# Altium integrated library TI Data Converters Digital to Analog Converter.IntLib: 1533 symbols (part 33 of 99)
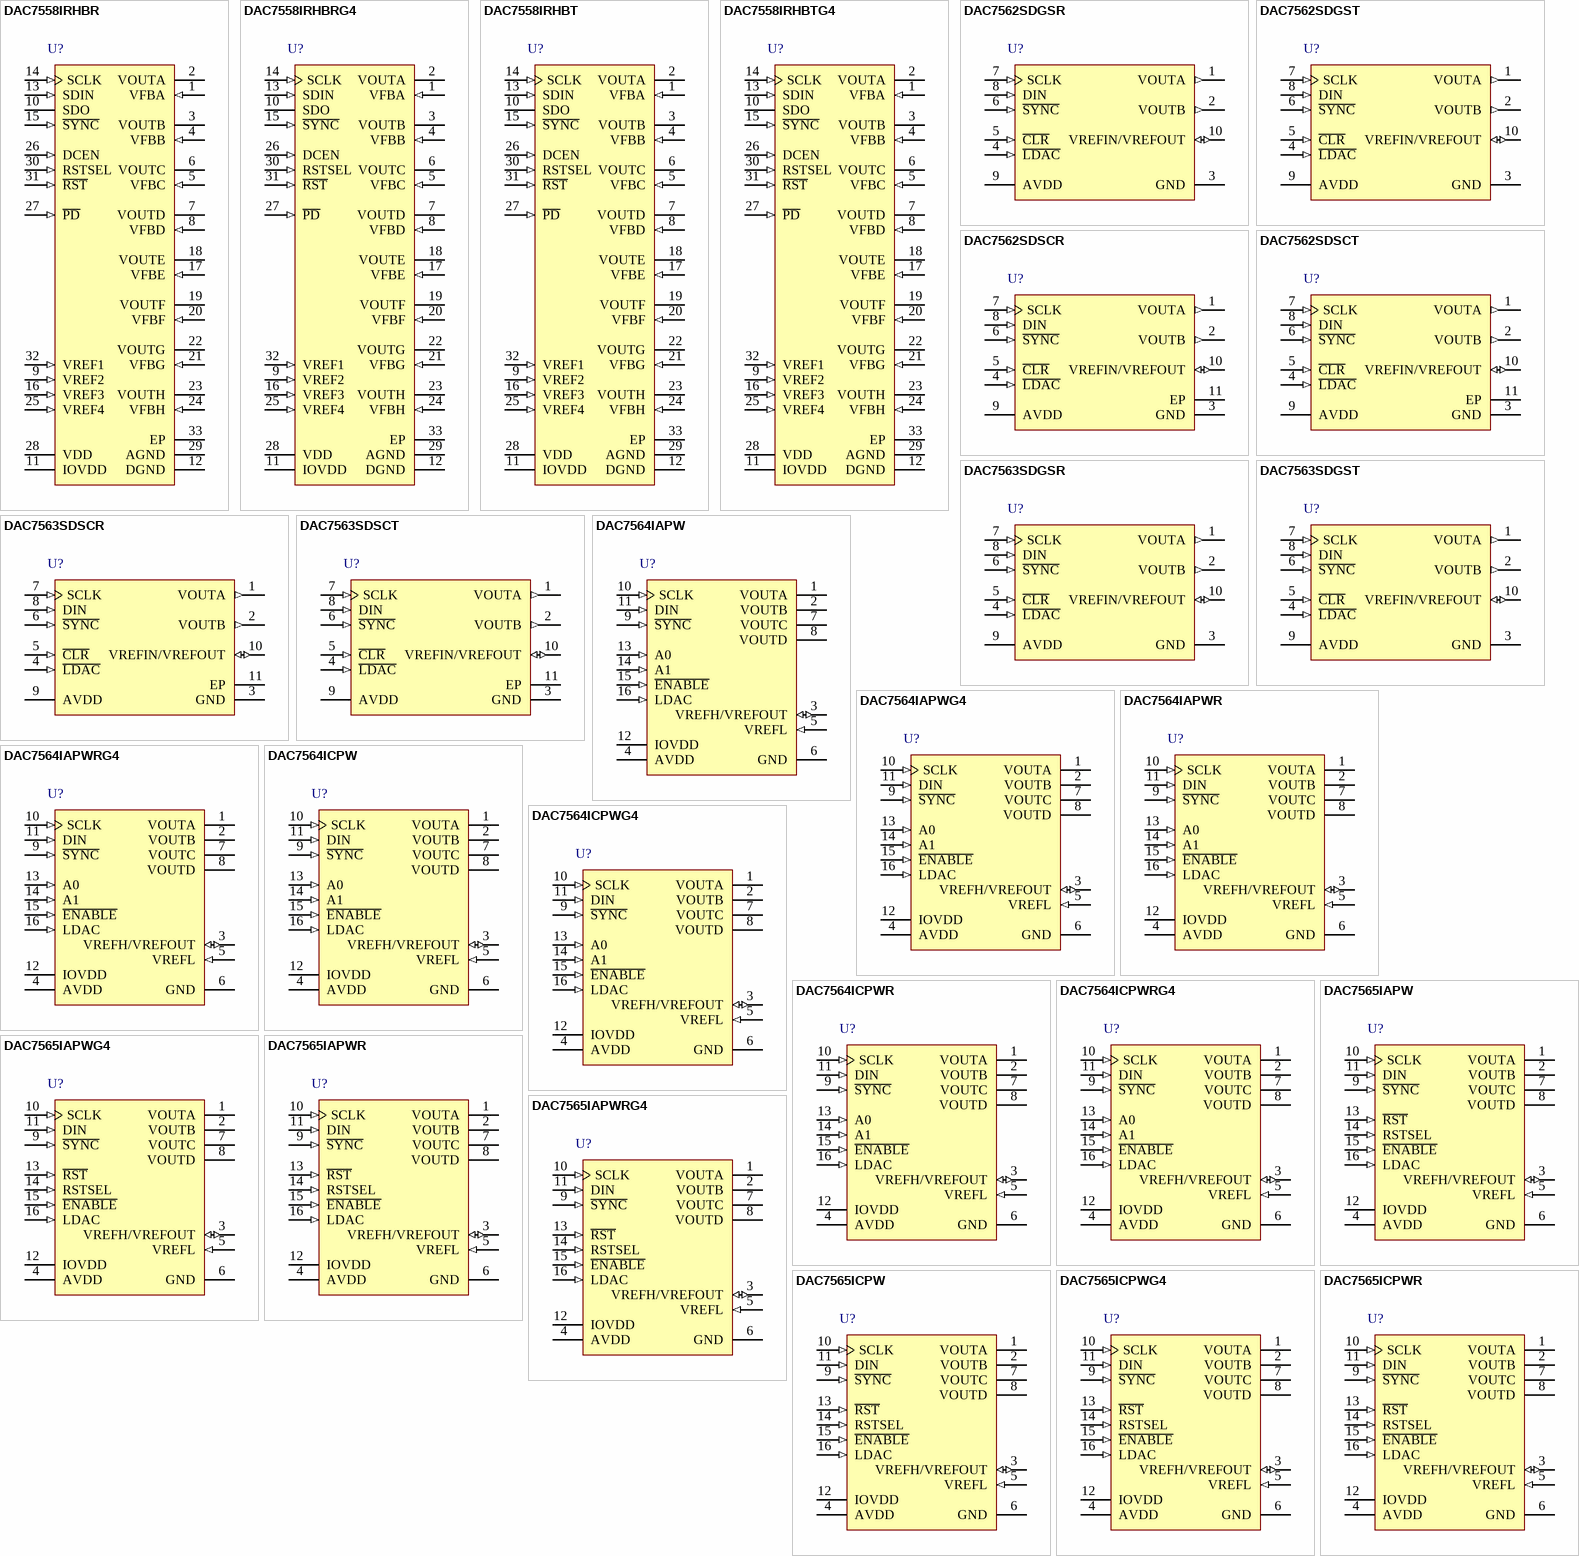
[diagram p105: symbols DAC7558IRHBR to DAC7565ICPWR]

## DAC7558IRHBTG4
designator U?
12-Bit, Octal, Ultralow Glitch, Voltage Output DAC, -40 to 105 degC, 32-pin QFN (RHB32), Green (RoHS & no Sb/Br); Manufacturer: Texas Instruments; PartNumber: DAC7558IRHBTG4; DAC Channels: 8; DNL(Max)(+/-LSB): 0.5; INL(Max)(+/-LSB): 1; Interface: Serial SPI; Power Consumption(Typ)(mW): 4.5; Resolution(Bits): 12; Settling Time(us): 5; SubFamily: Precision DAC (=<10MSPS); DatasheetVersion: SLAS435A; PackageVersion: 4204326/D, 06/2011; PackageReference: RHB32-3450X3450TP; PackageDescription: 32-Pin Plastic Flat Pack, Body 5 x 5 mm, Pitch 0.5 mm; Supplier 1: Digi-Key; Supplier Part Number 1: DAC7558IRHBTG4-ND; Supplier 2: Newark; Supplier Part Number 2: 70K1031; Supplier 3: Mouser; Supplier Part Number 3: 595-DAC7558IRHBTG4; Eco-Plan: Green (RoHS & no Sb/Br); Mounting Technology: Surface Mount; Code_JEDEC: MO-220; ComponentLink1Description: Manufacturer URL; ComponentLink1URL: http://www.ti.com/; ComponentLink2Description: Datasheet; ComponentLink2URL: http://www.ti.com/general/docs/lit/getliterature.tsp?genericPartNumber=DAC7558&fileType=pdf; ComponentLink3Description: Package Specification; ComponentLink3URL: http://www.ti.com/lit/ml/mpqf130c/mpqf130c.pdf
footprint TI-RHB32-3450X3450TP_V (QFN, 32-Leads, Body 5x5mm, Pitch 0.5mm, Thermal Pad 3.45x3.45mm)
pins: 1 VFBA (in) "DAC A amplifier sense input", 2 VOUTA (hiz) "Analog output voltage from DAC A", 3 VOUTB (hiz) "Analog output voltage from DAC B", 4 VFBB (in) "DAC B amplifier sense input", 5 VFBC (in) "DAC C amplifier sense input", 6 VOUTC (hiz) "Analog output voltage from DAC C", 7 VOUTD (hiz) "Analog output voltage from DAC D", 8 VFBD (in) "DAC D amplifier sense input", 9 VREF2 (in) "Positive reference voltage input for DAC C and DAC D", 10 SDO (hiz) "Serial data output", 11 IOVDD (power) "I/O voltage supply input", 12 DGND (power) "Digital ground", 13 SDIN (in) "Serial data input", 14 SCLK (in) "Serial clock input", 15 ~{SYNC} (in) "Frame synchronization input. The falling edge of the SYNC pulse indicates the start of a serial data frame shifted out to the DAC7558.", 16 VREF3 (in) "Positive reference voltage input for DAC E and DAC F", 17 VFBE (in) "DAC E amplifier sense input", 18 VOUTE (hiz) "Analog output voltage from DAC E", 19 VOUTF (hiz) "Analog output voltage from DAC F", 20 VFBF (in) "DAC F amplifier sense input", 21 VFBG (in) "DAC G amplifier sense input", 22 VOUTG (hiz) "Analog output voltage from DAC G", 23 VOUTH (hiz) "Analog output voltage from DAC H", 24 VFBH (in) "DAC H amplifier sense input", 25 VREF4 (in) "Positive reference voltage input for DAC G and DAC H", 26 DCEN (in) "Daisy-chain enable", 27 ~{PD} (in) "Power down", 28 VDD (power) "Analog voltage supply input", 29 AGND (power) "Analog ground", 30 RSTSEL (in) "Reset select. If this pin is low, input coding is binary; if high, then 2s compliment.", 31 ~{RST} (in) "Asynchronous reset. Active low. If R\S\T\ pin is low, all DAC channels reset either to zero scale (RSTSEL = 0) or to midscale (RSTSEL = 1).", 32 VREF1 (in) "Positive reference voltage input for DAC A and DAC B", 33 EP (power) "Thermal pad should be connected to AGND."

## DAC7562SDGSR
designator U?
12-Bit, Dual, Low Power, Ultra-Low Glitch, Buffered Voltage Output DAC with 2.5 V, 4 ppm/degC Reference, -40 to 125 degC, 10-pin SOP (DGS10), Green (RoHS & no Sb/Br); Manufacturer: Texas Instruments; PartNumber: DAC7562SDGSR; DAC Channels: 2; DNL(Max)(+/-LSB): 0.25; INL(Max)(+/-LSB): 0.75; Interface: Serial SPI; Power Consumption(Typ)(mW): 0.54; Resolution(Bits): 12; Settling Time(us): 7; SubFamily: Precision DAC (=<10MSPS); DatasheetVersion: SLAS719D; PackageVersion: 4073272/C, 02/2004; PackageReference: DGS10; PackageDescription: 10-Pin Plastic Small Outline, Body 3 x 3 mm, Pitch 0.5 mm; Supplier 1: Digi-Key; Supplier Part Number 1: 296-29022-2-ND; Supplier 2: Digi-Key; Supplier Part Number 2: 296-29022-1-ND; Supplier 3: Digi-Key; Supplier Part Number 3: 296-29022-6-ND; Supplier 4: Mouser; Supplier Part Number 4: 595-DAC7562SDGSR; Eco-Plan: Green (RoHS & no Sb/Br); Mounting Technology: Surface Mount; Code_JEDEC: MO-153; ComponentLink1Description: Manufacturer URL; ComponentLink1URL: http://www.ti.com/; ComponentLink2Description: Datasheet; ComponentLink2URL: http://www.ti.com/general/docs/lit/getliterature.tsp?genericPartNumber=DAC7562&fileType=pdf; ComponentLink3Description: Package Specification; ComponentLink3URL: http://www.ti.com/lit/ml/mpds035b/mpds035b.pdf
footprint TI-DGS10_N (SOP, 10-Leads, Body 3x3mm, Pitch 0.5mm, IPC Medium Density)
footprint TI-DGS10_L (SOP, 10-Leads, Body 3x3mm, Pitch 0.5mm, IPC High Density)
footprint TI-DGS10_M (SOP, 10-Leads, Body 3x3mm, Pitch 0.5mm, IPC Low Density)
pins: 1 VOUTA (out) "Analog output voltage from DAC-A", 2 VOUTB (out) "Analog output voltage from DAC-B", 3 GND (power) "Ground reference point for all circuitry on the device", 4 ~{LDAC} (in) "In synchronous mode, data are updated with the falling edge of the 24th SCLK cycle, which follows a falling edge of S\Y\N\C\. For such synchronous updates, the L\D\A\C\ pin is not required, and it must be connected to GND (See Datasheet)", 5 ~{CLR} (in) "Asynchronous clear input. The C\L\R\ input is falling-edge sensitive. When C\L\R\ is activated, zero scale (DACxx62) or mid-scale (DACxx63) is loaded to all input and DAC registers. This sets the DAC output voltages (See Datasheet)", 6 ~{SYNC} (in) "Level-triggered control input (active-low). This input is the frame synchronization signal for the input data. When S\Y\N\C\ goes low, it enables the input shift register, and data are sampled on subsequent falling clock (See Datasheet)", 7 SCLK (in) "Serial clock input. Data can be transferred at rates up to 50 MHz. Schmitt-trigger logic input", 8 DIN (in) "Serial data input. Data are clocked into the 24-bit input shift register on each falling edge of the serial clock input. Schmitt-trigger logic input", 9 AVDD (power) "Power-supply input, 2.7 V to 5.5 V", 10 VREFIN/VREFOUT (io) "Bidirectional voltage reference pin. If internal reference is used, 2.5-V output."

## DAC7562SDGST
designator U?
12-Bit, Dual, Low Power, Ultra-Low Glitch, Buffered Voltage Output DAC with 2.5 V, 4 ppm/degC Reference, -40 to 125 degC, 10-pin SOP (DGS10), Green (RoHS & no Sb/Br); Manufacturer: Texas Instruments; PartNumber: DAC7562SDGST; DAC Channels: 2; DNL(Max)(+/-LSB): 0.25; INL(Max)(+/-LSB): 0.75; Interface: Serial SPI; Power Consumption(Typ)(mW): 0.54; Resolution(Bits): 12; Settling Time(us): 7; SubFamily: Precision DAC (=<10MSPS); DatasheetVersion: SLAS719D; PackageVersion: 4073272/C, 02/2004; PackageReference: DGS10; PackageDescription: 10-Pin Plastic Small Outline, Body 3 x 3 mm, Pitch 0.5 mm; Supplier 1: Digi-Key; Supplier Part Number 1: DAC7562SDGST-ND; Supplier 2: Newark; Supplier Part Number 2: 51T4330; Supplier 3: Mouser; Supplier Part Number 3: 595-DAC7562SDGST; Eco-Plan: Green (RoHS & no Sb/Br); Mounting Technology: Surface Mount; Code_JEDEC: MO-153; ComponentLink1Description: Manufacturer URL; ComponentLink1URL: http://www.ti.com/; ComponentLink2Description: Datasheet; ComponentLink2URL: http://www.ti.com/general/docs/lit/getliterature.tsp?genericPartNumber=DAC7562&fileType=pdf; ComponentLink3Description: Package Specification; ComponentLink3URL: http://www.ti.com/lit/ml/mpds035b/mpds035b.pdf
footprint TI-DGS10_N (SOP, 10-Leads, Body 3x3mm, Pitch 0.5mm, IPC Medium Density)
footprint TI-DGS10_L (SOP, 10-Leads, Body 3x3mm, Pitch 0.5mm, IPC High Density)
footprint TI-DGS10_M (SOP, 10-Leads, Body 3x3mm, Pitch 0.5mm, IPC Low Density)
pins: 1 VOUTA (out) "Analog output voltage from DAC-A", 2 VOUTB (out) "Analog output voltage from DAC-B", 3 GND (power) "Ground reference point for all circuitry on the device", 4 ~{LDAC} (in) "In synchronous mode, data are updated with the falling edge of the 24th SCLK cycle, which follows a falling edge of S\Y\N\C\. For such synchronous updates, the L\D\A\C\ pin is not required, and it must be connected to GND (See Datasheet)", 5 ~{CLR} (in) "Asynchronous clear input. The C\L\R\ input is falling-edge sensitive. When C\L\R\ is activated, zero scale (DACxx62) or mid-scale (DACxx63) is loaded to all input and DAC registers. This sets the DAC output voltages (See Datasheet)", 6 ~{SYNC} (in) "Level-triggered control input (active-low). This input is the frame synchronization signal for the input data. When S\Y\N\C\ goes low, it enables the input shift register, and data are sampled on subsequent falling clock (See Datasheet)", 7 SCLK (in) "Serial clock input. Data can be transferred at rates up to 50 MHz. Schmitt-trigger logic input", 8 DIN (in) "Serial data input. Data are clocked into the 24-bit input shift register on each falling edge of the serial clock input. Schmitt-trigger logic input", 9 AVDD (power) "Power-supply input, 2.7 V to 5.5 V", 10 VREFIN/VREFOUT (io) "Bidirectional voltage reference pin. If internal reference is used, 2.5-V output."

## DAC7562SDSCR
designator U?
12-Bit, Dual, Low Power, Ultra-Low Glitch, Buffered Voltage Output DAC with 2.5 V, 4 ppm/degC Reference, -40 to 125 degC, 10-pin SON (DSC10), Green (RoHS & no Sb/Br); Manufacturer: Texas Instruments; PartNumber: DAC7562SDSCR; DAC Channels: 2; DNL(Max)(+/-LSB): 0.25; INL(Max)(+/-LSB): 0.75; Interface: Serial SPI; Power Consumption(Typ)(mW): 0.54; Resolution(Bits): 12; Settling Time(us): 7; SubFamily: Precision DAC (=<10MSPS); DatasheetVersion: SLAS719D; PackageVersion: 4207383/E, 01/2011; PackageReference: DSC10-2550X1050TP; PackageDescription: 10-Pin Plastic Small Outline No-Lead, Body 3 x 3 mm, Pitch 0.5 mm; Supplier 1: Digi-Key; Supplier Part Number 1: 296-29023-2-ND; Supplier 2: Digi-Key; Supplier Part Number 2: 296-29023-1-ND; Supplier 3: Digi-Key; Supplier Part Number 3: 296-29023-6-ND; Supplier 4: Newark; Supplier Part Number 4: 52T7715; Supplier 5: Mouser; Supplier Part Number 5: 595-DAC7562SDSCR; Eco-Plan: Green (RoHS & no Sb/Br); Mounting Technology: Surface Mount; ComponentLink1Description: Manufacturer URL; ComponentLink1URL: http://www.ti.com/; ComponentLink2Description: Datasheet; ComponentLink2URL: http://www.ti.com/general/docs/lit/getliterature.tsp?genericPartNumber=DAC7562&fileType=pdf; ComponentLink3Description: Package Specification; ComponentLink3URL: http://www.ti.com/litv/pdf/mpds239d
footprint TI-DSC10-2550X1050TP_V (SON, 10-Leads, Body 3x3mm, Pitch 0.5mm, Thermal Pad 2.91x1.05mm)
pins: 1 VOUTA (out) "Analog output voltage from DAC-A", 2 VOUTB (out) "Analog output voltage from DAC-B", 3 GND (power) "Ground reference point for all circuitry on the device", 4 ~{LDAC} (in) "In synchronous mode, data are updated with the falling edge of the 24th SCLK cycle, which follows a falling edge of S\Y\N\C\. For such synchronous updates, the L\D\A\C\ pin is not required, and it must be connected to GND (See Datasheet)", 5 ~{CLR} (in) "Asynchronous clear input. The C\L\R\ input is falling-edge sensitive. When C\L\R\ is activated, zero scale (DACxx62) or mid-scale (DACxx63) is loaded to all input and DAC registers. This sets the DAC output voltages (See Datasheet)", 6 ~{SYNC} (in) "Level-triggered control input (active-low). This input is the frame synchronization signal for the input data. When S\Y\N\C\ goes low, it enables the input shift register, and data are sampled on subsequent falling clock (See Datasheet)", 7 SCLK (in) "Serial clock input. Data can be transferred at rates up to 50 MHz. Schmitt-trigger logic input", 8 DIN (in) "Serial data input. Data are clocked into the 24-bit input shift register on each falling edge of the serial clock input. Schmitt-trigger logic input", 9 AVDD (power) "Power-supply input, 2.7 V to 5.5 V", 10 VREFIN/VREFOUT (io) "Bidirectional voltage reference pin. If internal reference is used, 2.5-V output.", 11 EP (power) "It is recommended to connect the thermal pad to the ground plane for better thermal dissipation."

## DAC7562SDSCT
designator U?
12-Bit, Dual, Low Power, Ultra-Low Glitch, Buffered Voltage Output DAC with 2.5 V, 4 ppm/degC Reference, -40 to 125 degC, 10-pin SON (DSC10), Green (RoHS & no Sb/Br); Manufacturer: Texas Instruments; PartNumber: DAC7562SDSCT; DAC Channels: 2; DNL(Max)(+/-LSB): 0.25; INL(Max)(+/-LSB): 0.75; Interface: Serial SPI; Power Consumption(Typ)(mW): 0.54; Resolution(Bits): 12; Settling Time(us): 7; SubFamily: Precision DAC (=<10MSPS); DatasheetVersion: SLAS719D; PackageVersion: 4207383/E, 01/2011; PackageReference: DSC10-2550X1050TP; PackageDescription: 10-Pin Plastic Small Outline No-Lead, Body 3 x 3 mm, Pitch 0.5 mm; Supplier 1: Digi-Key; Supplier Part Number 1: 296-29094-2-ND; Supplier 2: Digi-Key; Supplier Part Number 2: 296-29094-1-ND; Supplier 3: Digi-Key; Supplier Part Number 3: 296-29094-6-ND; Supplier 4: Farnell; Supplier Part Number 4: 1924800; Supplier 5: Newark; Supplier Part Number 5: 51T4331; Supplier 6: Mouser; Supplier Part Number 6: 595-DAC7562SDSCT; Eco-Plan: Green (RoHS & no Sb/Br); Mounting Technology: Surface Mount; ComponentLink1Description: Manufacturer URL; ComponentLink1URL: http://www.ti.com/; ComponentLink2Description: Datasheet; ComponentLink2URL: http://www.ti.com/general/docs/lit/getliterature.tsp?genericPartNumber=DAC7562&fileType=pdf; ComponentLink3Description: Package Specification; ComponentLink3URL: http://www.ti.com/litv/pdf/mpds239d
footprint TI-DSC10-2550X1050TP_V (SON, 10-Leads, Body 3x3mm, Pitch 0.5mm, Thermal Pad 2.91x1.05mm)
pins: 1 VOUTA (out) "Analog output voltage from DAC-A", 2 VOUTB (out) "Analog output voltage from DAC-B", 3 GND (power) "Ground reference point for all circuitry on the device", 4 ~{LDAC} (in) "In synchronous mode, data are updated with the falling edge of the 24th SCLK cycle, which follows a falling edge of S\Y\N\C\. For such synchronous updates, the L\D\A\C\ pin is not required, and it must be connected to GND (See Datasheet)", 5 ~{CLR} (in) "Asynchronous clear input. The C\L\R\ input is falling-edge sensitive. When C\L\R\ is activated, zero scale (DACxx62) or mid-scale (DACxx63) is loaded to all input and DAC registers. This sets the DAC output voltages (See Datasheet)", 6 ~{SYNC} (in) "Level-triggered control input (active-low). This input is the frame synchronization signal for the input data. When S\Y\N\C\ goes low, it enables the input shift register, and data are sampled on subsequent falling clock (See Datasheet)", 7 SCLK (in) "Serial clock input. Data can be transferred at rates up to 50 MHz. Schmitt-trigger logic input", 8 DIN (in) "Serial data input. Data are clocked into the 24-bit input shift register on each falling edge of the serial clock input. Schmitt-trigger logic input", 9 AVDD (power) "Power-supply input, 2.7 V to 5.5 V", 10 VREFIN/VREFOUT (io) "Bidirectional voltage reference pin. If internal reference is used, 2.5-V output.", 11 EP (power) "It is recommended to connect the thermal pad to the ground plane for better thermal dissipation."

## DAC7563SDGSR
designator U?
12-Bit, Dual, Low Power, Ultra-Low Glitch, Buffered Voltage Output DAC with 2.5 V, 4 ppm/degC Reference, -40 to 125 degC, 10-pin SOP (DGS10), Green (RoHS & no Sb/Br); Manufacturer: Texas Instruments; PartNumber: DAC7563SDGSR; DAC Channels: 2; DNL(Max)(+/-LSB): 0.25; INL(Max)(+/-LSB): 0.75; Interface: Serial SPI; Power Consumption(Typ)(mW): 0.54; Resolution(Bits): 12; Settling Time(us): 7; SubFamily: Precision DAC (=<10MSPS); DatasheetVersion: SLAS719D; PackageVersion: 4073272/C, 02/2004; PackageReference: DGS10; PackageDescription: 10-Pin Plastic Small Outline, Body 3 x 3 mm, Pitch 0.5 mm; Supplier 1: Digi-Key; Supplier Part Number 1: 296-29024-2-ND; Supplier 2: Digi-Key; Supplier Part Number 2: 296-29024-1-ND; Supplier 3: Digi-Key; Supplier Part Number 3: 296-29024-6-ND; Supplier 4: Mouser; Supplier Part Number 4: 595-DAC7563SDGSR; Eco-Plan: Green (RoHS & no Sb/Br); Mounting Technology: Surface Mount; Code_JEDEC: MO-153; ComponentLink1Description: Manufacturer URL; ComponentLink1URL: http://www.ti.com/; ComponentLink2Description: Datasheet; ComponentLink2URL: http://www.ti.com/general/docs/lit/getliterature.tsp?genericPartNumber=DAC7563&fileType=pdf; ComponentLink3Description: Package Specification; ComponentLink3URL: http://www.ti.com/lit/ml/mpds035b/mpds035b.pdf
footprint TI-DGS10_N (SOP, 10-Leads, Body 3x3mm, Pitch 0.5mm, IPC Medium Density)
footprint TI-DGS10_L (SOP, 10-Leads, Body 3x3mm, Pitch 0.5mm, IPC High Density)
footprint TI-DGS10_M (SOP, 10-Leads, Body 3x3mm, Pitch 0.5mm, IPC Low Density)
pins: 1 VOUTA (out) "Analog output voltage from DAC-A", 2 VOUTB (out) "Analog output voltage from DAC-B", 3 GND (power) "Ground reference point for all circuitry on the device", 4 ~{LDAC} (in) "In synchronous mode, data are updated with the falling edge of the 24th SCLK cycle, which follows a falling edge of S\Y\N\C\. For such synchronous updates, the L\D\A\C\ pin is not required, and it must be connected to GND (See Datasheet)", 5 ~{CLR} (in) "Asynchronous clear input. The C\L\R\ input is falling-edge sensitive. When C\L\R\ is activated, zero scale (DACxx62) or mid-scale (DACxx63) is loaded to all input and DAC registers. This sets the DAC output voltages (See Datasheet)", 6 ~{SYNC} (in) "Level-triggered control input (active-low). This input is the frame synchronization signal for the input data. When S\Y\N\C\ goes low, it enables the input shift register, and data are sampled on subsequent falling clock (See Datasheet)", 7 SCLK (in) "Serial clock input. Data can be transferred at rates up to 50 MHz. Schmitt-trigger logic input", 8 DIN (in) "Serial data input. Data are clocked into the 24-bit input shift register on each falling edge of the serial clock input. Schmitt-trigger logic input", 9 AVDD (power) "Power-supply input, 2.7 V to 5.5 V", 10 VREFIN/VREFOUT (io) "Bidirectional voltage reference pin. If internal reference is used, 2.5-V output."

## DAC7563SDGST
designator U?
12-Bit, Dual, Low Power, Ultra-Low Glitch, Buffered Voltage Output DAC with 2.5 V, 4 ppm/degC Reference, -40 to 125 degC, 10-pin SOP (DGS10), Green (RoHS & no Sb/Br); Manufacturer: Texas Instruments; PartNumber: DAC7563SDGST; DAC Channels: 2; DNL(Max)(+/-LSB): 0.25; INL(Max)(+/-LSB): 0.75; Interface: Serial SPI; Power Consumption(Typ)(mW): 0.54; Resolution(Bits): 12; Settling Time(us): 7; SubFamily: Precision DAC (=<10MSPS); DatasheetVersion: SLAS719D; PackageVersion: 4073272/C, 02/2004; PackageReference: DGS10; PackageDescription: 10-Pin Plastic Small Outline, Body 3 x 3 mm, Pitch 0.5 mm; Supplier 1: Digi-Key; Supplier Part Number 1: 296-32087-2-ND; Supplier 2: Digi-Key; Supplier Part Number 2: 296-32087-1-ND; Supplier 3: Digi-Key; Supplier Part Number 3: 296-32087-6-ND; Supplier 4: Newark; Supplier Part Number 4: 51T4332; Supplier 5: Mouser; Supplier Part Number 5: 595-DAC7563SDGST; Eco-Plan: Green (RoHS & no Sb/Br); Mounting Technology: Surface Mount; Code_JEDEC: MO-153; ComponentLink1Description: Manufacturer URL; ComponentLink1URL: http://www.ti.com/; ComponentLink2Description: Datasheet; ComponentLink2URL: http://www.ti.com/general/docs/lit/getliterature.tsp?genericPartNumber=DAC7563&fileType=pdf; ComponentLink3Description: Package Specification; ComponentLink3URL: http://www.ti.com/lit/ml/mpds035b/mpds035b.pdf
footprint TI-DGS10_N (SOP, 10-Leads, Body 3x3mm, Pitch 0.5mm, IPC Medium Density)
footprint TI-DGS10_L (SOP, 10-Leads, Body 3x3mm, Pitch 0.5mm, IPC High Density)
footprint TI-DGS10_M (SOP, 10-Leads, Body 3x3mm, Pitch 0.5mm, IPC Low Density)
pins: 1 VOUTA (out) "Analog output voltage from DAC-A", 2 VOUTB (out) "Analog output voltage from DAC-B", 3 GND (power) "Ground reference point for all circuitry on the device", 4 ~{LDAC} (in) "In synchronous mode, data are updated with the falling edge of the 24th SCLK cycle, which follows a falling edge of S\Y\N\C\. For such synchronous updates, the L\D\A\C\ pin is not required, and it must be connected to GND (See Datasheet)", 5 ~{CLR} (in) "Asynchronous clear input. The C\L\R\ input is falling-edge sensitive. When C\L\R\ is activated, zero scale (DACxx62) or mid-scale (DACxx63) is loaded to all input and DAC registers. This sets the DAC output voltages (See Datasheet)", 6 ~{SYNC} (in) "Level-triggered control input (active-low). This input is the frame synchronization signal for the input data. When S\Y\N\C\ goes low, it enables the input shift register, and data are sampled on subsequent falling clock (See Datasheet)", 7 SCLK (in) "Serial clock input. Data can be transferred at rates up to 50 MHz. Schmitt-trigger logic input", 8 DIN (in) "Serial data input. Data are clocked into the 24-bit input shift register on each falling edge of the serial clock input. Schmitt-trigger logic input", 9 AVDD (power) "Power-supply input, 2.7 V to 5.5 V", 10 VREFIN/VREFOUT (io) "Bidirectional voltage reference pin. If internal reference is used, 2.5-V output."

## DAC7563SDSCR
designator U?
12-Bit, Dual, Low Power, Ultra-Low Glitch, Buffered Voltage Output DAC with 2.5 V, 4 ppm/degC Reference, -40 to 125 degC, 10-pin SON (DSC10), Green (RoHS & no Sb/Br); Manufacturer: Texas Instruments; PartNumber: DAC7563SDSCR; DAC Channels: 2; DNL(Max)(+/-LSB): 0.25; INL(Max)(+/-LSB): 0.75; Interface: Serial SPI; Power Consumption(Typ)(mW): 0.54; Resolution(Bits): 12; Settling Time(us): 7; SubFamily: Precision DAC (=<10MSPS); DatasheetVersion: SLAS719D; PackageVersion: 4207383/E, 01/2011; PackageReference: DSC10-2550X1050TP; PackageDescription: 10-Pin Plastic Small Outline No-Lead, Body 3 x 3 mm, Pitch 0.5 mm; Supplier 1: Digi-Key; Supplier Part Number 1: 296-29025-2-ND; Supplier 2: Digi-Key; Supplier Part Number 2: 296-29025-1-ND; Supplier 3: Digi-Key; Supplier Part Number 3: 296-29025-6-ND; Supplier 4: Mouser; Supplier Part Number 4: 595-DAC7563SDSCR; Eco-Plan: Green (RoHS & no Sb/Br); Mounting Technology: Surface Mount; ComponentLink1Description: Manufacturer URL; ComponentLink1URL: http://www.ti.com/; ComponentLink2Description: Datasheet; ComponentLink2URL: http://www.ti.com/general/docs/lit/getliterature.tsp?genericPartNumber=DAC7563&fileType=pdf; ComponentLink3Description: Package Specification; ComponentLink3URL: http://www.ti.com/litv/pdf/mpds239d
footprint TI-DSC10-2550X1050TP_V (SON, 10-Leads, Body 3x3mm, Pitch 0.5mm, Thermal Pad 2.91x1.05mm)
pins: 1 VOUTA (out) "Analog output voltage from DAC-A", 2 VOUTB (out) "Analog output voltage from DAC-B", 3 GND (power) "Ground reference point for all circuitry on the device", 4 ~{LDAC} (in) "In synchronous mode, data are updated with the falling edge of the 24th SCLK cycle, which follows a falling edge of S\Y\N\C\. For such synchronous updates, the L\D\A\C\ pin is not required, and it must be connected to GND (See Datasheet)", 5 ~{CLR} (in) "Asynchronous clear input. The C\L\R\ input is falling-edge sensitive. When C\L\R\ is activated, zero scale (DACxx62) or mid-scale (DACxx63) is loaded to all input and DAC registers. This sets the DAC output voltages (See Datasheet)", 6 ~{SYNC} (in) "Level-triggered control input (active-low). This input is the frame synchronization signal for the input data. When S\Y\N\C\ goes low, it enables the input shift register, and data are sampled on subsequent falling clock (See Datasheet)", 7 SCLK (in) "Serial clock input. Data can be transferred at rates up to 50 MHz. Schmitt-trigger logic input", 8 DIN (in) "Serial data input. Data are clocked into the 24-bit input shift register on each falling edge of the serial clock input. Schmitt-trigger logic input", 9 AVDD (power) "Power-supply input, 2.7 V to 5.5 V", 10 VREFIN/VREFOUT (io) "Bidirectional voltage reference pin. If internal reference is used, 2.5-V output.", 11 EP (power) "It is recommended to connect the thermal pad to the ground plane for better thermal dissipation."

## DAC7563SDSCT
designator U?
12-Bit, Dual, Low Power, Ultra-Low Glitch, Buffered Voltage Output DAC with 2.5 V, 4 ppm/degC Reference, -40 to 125 degC, 10-pin SON (DSC10), Green (RoHS & no Sb/Br); Manufacturer: Texas Instruments; PartNumber: DAC7563SDSCT; DAC Channels: 2; DNL(Max)(+/-LSB): 0.25; INL(Max)(+/-LSB): 0.75; Interface: Serial SPI; Power Consumption(Typ)(mW): 0.54; Resolution(Bits): 12; Settling Time(us): 7; SubFamily: Precision DAC (=<10MSPS); DatasheetVersion: SLAS719D; PackageVersion: 4207383/E, 01/2011; PackageReference: DSC10-2550X1050TP; PackageDescription: 10-Pin Plastic Small Outline No-Lead, Body 3 x 3 mm, Pitch 0.5 mm; Supplier 1: Digi-Key; Supplier Part Number 1: 296-29095-2-ND; Supplier 2: Digi-Key; Supplier Part Number 2: 296-29095-1-ND; Supplier 3: Digi-Key; Supplier Part Number 3: 296-29095-6-ND; Supplier 4: Farnell; Supplier Part Number 4: 1924802; Supplier 5: Newark; Supplier Part Number 5: 51T4333; Supplier 6: Mouser; Supplier Part Number 6: 595-DAC7563SDSCT; Eco-Plan: Green (RoHS & no Sb/Br); Mounting Technology: Surface Mount; ComponentLink1Description: Manufacturer URL; ComponentLink1URL: http://www.ti.com/; ComponentLink2Description: Datasheet; ComponentLink2URL: http://www.ti.com/general/docs/lit/getliterature.tsp?genericPartNumber=DAC7563&fileType=pdf; ComponentLink3Description: Package Specification; ComponentLink3URL: http://www.ti.com/litv/pdf/mpds239d
footprint TI-DSC10-2550X1050TP_V (SON, 10-Leads, Body 3x3mm, Pitch 0.5mm, Thermal Pad 2.91x1.05mm)
pins: 1 VOUTA (out) "Analog output voltage from DAC-A", 2 VOUTB (out) "Analog output voltage from DAC-B", 3 GND (power) "Ground reference point for all circuitry on the device", 4 ~{LDAC} (in) "In synchronous mode, data are updated with the falling edge of the 24th SCLK cycle, which follows a falling edge of S\Y\N\C\. For such synchronous updates, the L\D\A\C\ pin is not required, and it must be connected to GND (See Datasheet)", 5 ~{CLR} (in) "Asynchronous clear input. The C\L\R\ input is falling-edge sensitive. When C\L\R\ is activated, zero scale (DACxx62) or mid-scale (DACxx63) is loaded to all input and DAC registers. This sets the DAC output voltages (See Datasheet)", 6 ~{SYNC} (in) "Level-triggered control input (active-low). This input is the frame synchronization signal for the input data. When S\Y\N\C\ goes low, it enables the input shift register, and data are sampled on subsequent falling clock (See Datasheet)", 7 SCLK (in) "Serial clock input. Data can be transferred at rates up to 50 MHz. Schmitt-trigger logic input", 8 DIN (in) "Serial data input. Data are clocked into the 24-bit input shift register on each falling edge of the serial clock input. Schmitt-trigger logic input", 9 AVDD (power) "Power-supply input, 2.7 V to 5.5 V", 10 VREFIN/VREFOUT (io) "Bidirectional voltage reference pin. If internal reference is used, 2.5-V output.", 11 EP (power) "It is recommended to connect the thermal pad to the ground plane for better thermal dissipation."

## DAC7564IAPW
designator U?
12-Bit, Quad Channel, Ultra-Low Glitch, Voltage Output DAC with 2.5 V, 2 ppm/degC Internal Reference, -40 to 105 degC, 16-pin SOP (PW16), Green (RoHS & no Sb/Br); Manufacturer: Texas Instruments; PartNumber: DAC7564IAPW; DAC Channels: 4; DNL(Max)(+/-LSB): 0.5; Interface: Serial SPI; Power Consumption(Typ)(mW): 2.9; Resolution(Bits): 12; Settling Time(us): 8; SFDR(dB): 79; SNR(dB): 81; SubFamily: Precision DAC (=<10MSPS); DatasheetVersion: SBAS413B; PackageVersion: 4040064-4/G, 02/2011; PackageReference: PW16; PackageDescription: 16-Pin Plastic Small Outline, Body 5 x 4.4 mm, Pitch 0.65 mm; Supplier 1: Digi-Key; Supplier Part Number 1: 296-23219-5-ND; Supplier 2: Farnell; Supplier Part Number 2: 1604980; Supplier 3: Newark; Supplier Part Number 3: 94M6796; Supplier 4: Mouser; Supplier Part Number 4: 595-DAC7564IAPW; Eco-Plan: Green (RoHS & no Sb/Br); Mounting Technology: Surface Mount; Code_JEDEC: MO-153; ComponentLink1Description: Manufacturer URL; ComponentLink1URL: http://www.ti.com/; ComponentLink2Description: Datasheet; ComponentLink2URL: http://www.ti.com/general/docs/lit/getliterature.tsp?genericPartNumber=DAC7564&fileType=pdf; ComponentLink3Description: Package Specification; ComponentLink3URL: http://www.ti.com/lit/ml/mpds361/mpds361.pdf
footprint TI-PW16_N (SOP, 16-Leads, Body 5x4.4mm, Pitch 0.65mm, IPC Medium Density)
footprint TI-PW16_L (SOP, 16-Leads, Body 5x4.4mm, Pitch 0.65mm, IPC High Density)
footprint TI-PW16_M (SOP, 16-Leads, Body 5x4.4mm, Pitch 0.65mm, IPC Low Density)
pins: 1 VOUTA (hiz) "Analog output voltage from DAC-A", 2 VOUTB (hiz) "Analog output voltage from DAC-B", 3 VREFH/VREFOUT (io) "Positive reference input / reference output 2.5V if internal reference used.", 4 AVDD (power) "Power-supply input, 2.7V to 5.5V", 5 VREFL (in) "Negative reference input", 6 GND (power) "Ground reference point for all circuitry on the part", 7 VOUTC (hiz) "Analog output voltage from DAC-C", 8 VOUTD (hiz) "Analog output voltage from DAC-D", 9 ~{SYNC} (in) "Level-triggered control input (active-low). This input is the frame synchronization signal for the input data. When S\Y\N\C\ goes low, it enables the input shift register, and data are sampled on subsequent falling clock (See Datasheet)", 10 SCLK (in) "Serial clock input. Data can be transferred at rates up to 50MHz. Schmitt-Trigger logic input", 11 DIN (in) "Serial data input. Data are clocked into the 24-bit input shift register on each falling edge of the serial clock input.Schmitt-trigger logic input", 12 IOVDD (power) "Digital input-output power supply", 13 A0 (in) "Address 0-sets device address", 14 A1 (in) "Address 1-sets device address", 15 ~{ENABLE} (in) "The enable pin (active low) connects the SPI interface to the serial port", 16 LDAC (in) "Load DACs; rising edge triggered, loads all DAC registers"

## DAC7564IAPWG4
designator U?
12-Bit, Quad Channel, Ultra-Low Glitch, Voltage Output DAC with 2.5 V, 2 ppm/degC Internal Reference, -40 to 105 degC, 16-pin SOP (PW16), Green (RoHS & no Sb/Br); Manufacturer: Texas Instruments; PartNumber: DAC7564IAPWG4; DAC Channels: 4; DNL(Max)(+/-LSB): 0.5; Interface: Serial SPI; Power Consumption(Typ)(mW): 2.9; Resolution(Bits): 12; Settling Time(us): 8; SFDR(dB): 79; SNR(dB): 81; SubFamily: Precision DAC (=<10MSPS); DatasheetVersion: SBAS413B; PackageVersion: 4040064-4/G, 02/2011; PackageReference: PW16; PackageDescription: 16-Pin Plastic Small Outline, Body 5 x 4.4 mm, Pitch 0.65 mm; Supplier 1: Digi-Key; Supplier Part Number 1: DAC7564IAPWG4-ND; Supplier 2: Mouser; Supplier Part Number 2: 595-DAC7564IAPWG4; Eco-Plan: Green (RoHS & no Sb/Br); Mounting Technology: Surface Mount; Code_JEDEC: MO-153; ComponentLink1Description: Manufacturer URL; ComponentLink1URL: http://www.ti.com/; ComponentLink2Description: Datasheet; ComponentLink2URL: http://www.ti.com/general/docs/lit/getliterature.tsp?genericPartNumber=DAC7564&fileType=pdf; ComponentLink3Description: Package Specification; ComponentLink3URL: http://www.ti.com/lit/ml/mpds361/mpds361.pdf
footprint TI-PW16_N (SOP, 16-Leads, Body 5x4.4mm, Pitch 0.65mm, IPC Medium Density)
footprint TI-PW16_L (SOP, 16-Leads, Body 5x4.4mm, Pitch 0.65mm, IPC High Density)
footprint TI-PW16_M (SOP, 16-Leads, Body 5x4.4mm, Pitch 0.65mm, IPC Low Density)
pins: 1 VOUTA (hiz) "Analog output voltage from DAC-A", 2 VOUTB (hiz) "Analog output voltage from DAC-B", 3 VREFH/VREFOUT (io) "Positive reference input / reference output 2.5V if internal reference used.", 4 AVDD (power) "Power-supply input, 2.7V to 5.5V", 5 VREFL (in) "Negative reference input", 6 GND (power) "Ground reference point for all circuitry on the part", 7 VOUTC (hiz) "Analog output voltage from DAC-C", 8 VOUTD (hiz) "Analog output voltage from DAC-D", 9 ~{SYNC} (in) "Level-triggered control input (active-low). This input is the frame synchronization signal for the input data. When S\Y\N\C\ goes low, it enables the input shift register, and data are sampled on subsequent falling clock (See Datasheet)", 10 SCLK (in) "Serial clock input. Data can be transferred at rates up to 50MHz. Schmitt-Trigger logic input", 11 DIN (in) "Serial data input. Data are clocked into the 24-bit input shift register on each falling edge of the serial clock input.Schmitt-trigger logic input", 12 IOVDD (power) "Digital input-output power supply", 13 A0 (in) "Address 0-sets device address", 14 A1 (in) "Address 1-sets device address", 15 ~{ENABLE} (in) "The enable pin (active low) connects the SPI interface to the serial port", 16 LDAC (in) "Load DACs; rising edge triggered, loads all DAC registers"

## DAC7564IAPWR
designator U?
12-Bit, Quad Channel, Ultra-Low Glitch, Voltage Output DAC with 2.5 V, 2 ppm/degC Internal Reference, -40 to 105 degC, 16-pin SOP (PW16), Green (RoHS & no Sb/Br); Manufacturer: Texas Instruments; PartNumber: DAC7564IAPWR; DAC Channels: 4; DNL(Max)(+/-LSB): 0.5; Interface: Serial SPI; Power Consumption(Typ)(mW): 2.9; Resolution(Bits): 12; Settling Time(us): 8; SFDR(dB): 79; SNR(dB): 81; SubFamily: Precision DAC (=<10MSPS); DatasheetVersion: SBAS413B; PackageVersion: 4040064-4/G, 02/2011; PackageReference: PW16; PackageDescription: 16-Pin Plastic Small Outline, Body 5 x 4.4 mm, Pitch 0.65 mm; Supplier 1: Digi-Key; Supplier Part Number 1: DAC7564IAPWR-ND; Supplier 2: Mouser; Supplier Part Number 2: 595-DAC7564IAPWR; Eco-Plan: Green (RoHS & no Sb/Br); Mounting Technology: Surface Mount; Code_JEDEC: MO-153; ComponentLink1Description: Manufacturer URL; ComponentLink1URL: http://www.ti.com/; ComponentLink2Description: Datasheet; ComponentLink2URL: http://www.ti.com/general/docs/lit/getliterature.tsp?genericPartNumber=DAC7564&fileType=pdf; ComponentLink3Description: Package Specification; ComponentLink3URL: http://www.ti.com/lit/ml/mpds361/mpds361.pdf
footprint TI-PW16_N (SOP, 16-Leads, Body 5x4.4mm, Pitch 0.65mm, IPC Medium Density)
footprint TI-PW16_L (SOP, 16-Leads, Body 5x4.4mm, Pitch 0.65mm, IPC High Density)
footprint TI-PW16_M (SOP, 16-Leads, Body 5x4.4mm, Pitch 0.65mm, IPC Low Density)
pins: 1 VOUTA (hiz) "Analog output voltage from DAC-A", 2 VOUTB (hiz) "Analog output voltage from DAC-B", 3 VREFH/VREFOUT (io) "Positive reference input / reference output 2.5V if internal reference used.", 4 AVDD (power) "Power-supply input, 2.7V to 5.5V", 5 VREFL (in) "Negative reference input", 6 GND (power) "Ground reference point for all circuitry on the part", 7 VOUTC (hiz) "Analog output voltage from DAC-C", 8 VOUTD (hiz) "Analog output voltage from DAC-D", 9 ~{SYNC} (in) "Level-triggered control input (active-low). This input is the frame synchronization signal for the input data. When S\Y\N\C\ goes low, it enables the input shift register, and data are sampled on subsequent falling clock (See Datasheet)", 10 SCLK (in) "Serial clock input. Data can be transferred at rates up to 50MHz. Schmitt-Trigger logic input", 11 DIN (in) "Serial data input. Data are clocked into the 24-bit input shift register on each falling edge of the serial clock input.Schmitt-trigger logic input", 12 IOVDD (power) "Digital input-output power supply", 13 A0 (in) "Address 0-sets device address", 14 A1 (in) "Address 1-sets device address", 15 ~{ENABLE} (in) "The enable pin (active low) connects the SPI interface to the serial port", 16 LDAC (in) "Load DACs; rising edge triggered, loads all DAC registers"

## DAC7564IAPWRG4
designator U?
12-Bit, Quad Channel, Ultra-Low Glitch, Voltage Output DAC with 2.5 V, 2 ppm/degC Internal Reference, -40 to 105 degC, 16-pin SOP (PW16), Green (RoHS & no Sb/Br); Manufacturer: Texas Instruments; PartNumber: DAC7564IAPWRG4; DAC Channels: 4; DNL(Max)(+/-LSB): 0.5; Interface: Serial SPI; Power Consumption(Typ)(mW): 2.9; Resolution(Bits): 12; Settling Time(us): 8; SFDR(dB): 79; SNR(dB): 81; SubFamily: Precision DAC (=<10MSPS); DatasheetVersion: SBAS413B; PackageVersion: 4040064-4/G, 02/2011; PackageReference: PW16; PackageDescription: 16-Pin Plastic Small Outline, Body 5 x 4.4 mm, Pitch 0.65 mm; Supplier 1: Digi-Key; Supplier Part Number 1: DAC7564IAPWRG4-ND; Supplier 2: Mouser; Supplier Part Number 2: 595-DAC7564IAPWRG4; Eco-Plan: Green (RoHS & no Sb/Br); Mounting Technology: Surface Mount; Code_JEDEC: MO-153; ComponentLink1Description: Manufacturer URL; ComponentLink1URL: http://www.ti.com/; ComponentLink2Description: Datasheet; ComponentLink2URL: http://www.ti.com/general/docs/lit/getliterature.tsp?genericPartNumber=DAC7564&fileType=pdf; ComponentLink3Description: Package Specification; ComponentLink3URL: http://www.ti.com/lit/ml/mpds361/mpds361.pdf
footprint TI-PW16_N (SOP, 16-Leads, Body 5x4.4mm, Pitch 0.65mm, IPC Medium Density)
footprint TI-PW16_L (SOP, 16-Leads, Body 5x4.4mm, Pitch 0.65mm, IPC High Density)
footprint TI-PW16_M (SOP, 16-Leads, Body 5x4.4mm, Pitch 0.65mm, IPC Low Density)
pins: 1 VOUTA (hiz) "Analog output voltage from DAC-A", 2 VOUTB (hiz) "Analog output voltage from DAC-B", 3 VREFH/VREFOUT (io) "Positive reference input / reference output 2.5V if internal reference used.", 4 AVDD (power) "Power-supply input, 2.7V to 5.5V", 5 VREFL (in) "Negative reference input", 6 GND (power) "Ground reference point for all circuitry on the part", 7 VOUTC (hiz) "Analog output voltage from DAC-C", 8 VOUTD (hiz) "Analog output voltage from DAC-D", 9 ~{SYNC} (in) "Level-triggered control input (active-low). This input is the frame synchronization signal for the input data. When S\Y\N\C\ goes low, it enables the input shift register, and data are sampled on subsequent falling clock (See Datasheet)", 10 SCLK (in) "Serial clock input. Data can be transferred at rates up to 50MHz. Schmitt-Trigger logic input", 11 DIN (in) "Serial data input. Data are clocked into the 24-bit input shift register on each falling edge of the serial clock input.Schmitt-trigger logic input", 12 IOVDD (power) "Digital input-output power supply", 13 A0 (in) "Address 0-sets device address", 14 A1 (in) "Address 1-sets device address", 15 ~{ENABLE} (in) "The enable pin (active low) connects the SPI interface to the serial port", 16 LDAC (in) "Load DACs; rising edge triggered, loads all DAC registers"

## DAC7564ICPW
designator U?
12-Bit, Quad Channel, Ultra-Low Glitch, Voltage Output DAC with 2.5 V, 2 ppm/degC Internal Reference, -40 to 105 degC, 16-pin SOP (PW16), Green (RoHS & no Sb/Br); Manufacturer: Texas Instruments; PartNumber: DAC7564ICPW; DAC Channels: 4; DNL(Max)(+/-LSB): 0.5; Interface: Serial SPI; Power Consumption(Typ)(mW): 2.9; Resolution(Bits): 12; Settling Time(us): 8; SFDR(dB): 79; SNR(dB): 81; SubFamily: Precision DAC (=<10MSPS); DatasheetVersion: SBAS413B; PackageVersion: 4040064-4/G, 02/2011; PackageReference: PW16; PackageDescription: 16-Pin Plastic Small Outline, Body 5 x 4.4 mm, Pitch 0.65 mm; Supplier 1: Digi-Key; Supplier Part Number 1: 296-23220-5-ND; Supplier 2: Mouser; Supplier Part Number 2: 595-DAC7564ICPW; Eco-Plan: Green (RoHS & no Sb/Br); Mounting Technology: Surface Mount; Code_JEDEC: MO-153; ComponentLink1Description: Manufacturer URL; ComponentLink1URL: http://www.ti.com/; ComponentLink2Description: Datasheet; ComponentLink2URL: http://www.ti.com/general/docs/lit/getliterature.tsp?genericPartNumber=DAC7564&fileType=pdf; ComponentLink3Description: Package Specification; ComponentLink3URL: http://www.ti.com/lit/ml/mpds361/mpds361.pdf
footprint TI-PW16_N (SOP, 16-Leads, Body 5x4.4mm, Pitch 0.65mm, IPC Medium Density)
footprint TI-PW16_L (SOP, 16-Leads, Body 5x4.4mm, Pitch 0.65mm, IPC High Density)
footprint TI-PW16_M (SOP, 16-Leads, Body 5x4.4mm, Pitch 0.65mm, IPC Low Density)
pins: 1 VOUTA (hiz) "Analog output voltage from DAC-A", 2 VOUTB (hiz) "Analog output voltage from DAC-B", 3 VREFH/VREFOUT (io) "Positive reference input / reference output 2.5V if internal reference used.", 4 AVDD (power) "Power-supply input, 2.7V to 5.5V", 5 VREFL (in) "Negative reference input", 6 GND (power) "Ground reference point for all circuitry on the part", 7 VOUTC (hiz) "Analog output voltage from DAC-C", 8 VOUTD (hiz) "Analog output voltage from DAC-D", 9 ~{SYNC} (in) "Level-triggered control input (active-low). This input is the frame synchronization signal for the input data. When S\Y\N\C\ goes low, it enables the input shift register, and data are sampled on subsequent falling clock (See Datasheet)", 10 SCLK (in) "Serial clock input. Data can be transferred at rates up to 50MHz. Schmitt-Trigger logic input", 11 DIN (in) "Serial data input. Data are clocked into the 24-bit input shift register on each falling edge of the serial clock input.Schmitt-trigger logic input", 12 IOVDD (power) "Digital input-output power supply", 13 A0 (in) "Address 0-sets device address", 14 A1 (in) "Address 1-sets device address", 15 ~{ENABLE} (in) "The enable pin (active low) connects the SPI interface to the serial port", 16 LDAC (in) "Load DACs; rising edge triggered, loads all DAC registers"

## DAC7564ICPWG4
designator U?
12-Bit, Quad Channel, Ultra-Low Glitch, Voltage Output DAC with 2.5 V, 2 ppm/degC Internal Reference, -40 to 105 degC, 16-pin SOP (PW16), Green (RoHS & no Sb/Br); Manufacturer: Texas Instruments; PartNumber: DAC7564ICPWG4; DAC Channels: 4; DNL(Max)(+/-LSB): 0.5; Interface: Serial SPI; Power Consumption(Typ)(mW): 2.9; Resolution(Bits): 12; Settling Time(us): 8; SFDR(dB): 79; SNR(dB): 81; SubFamily: Precision DAC (=<10MSPS); DatasheetVersion: SBAS413B; PackageVersion: 4040064-4/G, 02/2011; PackageReference: PW16; PackageDescription: 16-Pin Plastic Small Outline, Body 5 x 4.4 mm, Pitch 0.65 mm; Supplier 1: Digi-Key; Supplier Part Number 1: DAC7564ICPWG4-ND; Supplier 2: Mouser; Supplier Part Number 2: 595-DAC7564ICPWG4; Eco-Plan: Green (RoHS & no Sb/Br); Mounting Technology: Surface Mount; Code_JEDEC: MO-153; ComponentLink1Description: Manufacturer URL; ComponentLink1URL: http://www.ti.com/; ComponentLink2Description: Datasheet; ComponentLink2URL: http://www.ti.com/general/docs/lit/getliterature.tsp?genericPartNumber=DAC7564&fileType=pdf; ComponentLink3Description: Package Specification; ComponentLink3URL: http://www.ti.com/lit/ml/mpds361/mpds361.pdf
footprint TI-PW16_N (SOP, 16-Leads, Body 5x4.4mm, Pitch 0.65mm, IPC Medium Density)
footprint TI-PW16_L (SOP, 16-Leads, Body 5x4.4mm, Pitch 0.65mm, IPC High Density)
footprint TI-PW16_M (SOP, 16-Leads, Body 5x4.4mm, Pitch 0.65mm, IPC Low Density)
pins: 1 VOUTA (hiz) "Analog output voltage from DAC-A", 2 VOUTB (hiz) "Analog output voltage from DAC-B", 3 VREFH/VREFOUT (io) "Positive reference input / reference output 2.5V if internal reference used.", 4 AVDD (power) "Power-supply input, 2.7V to 5.5V", 5 VREFL (in) "Negative reference input", 6 GND (power) "Ground reference point for all circuitry on the part", 7 VOUTC (hiz) "Analog output voltage from DAC-C", 8 VOUTD (hiz) "Analog output voltage from DAC-D", 9 ~{SYNC} (in) "Level-triggered control input (active-low). This input is the frame synchronization signal for the input data. When S\Y\N\C\ goes low, it enables the input shift register, and data are sampled on subsequent falling clock (See Datasheet)", 10 SCLK (in) "Serial clock input. Data can be transferred at rates up to 50MHz. Schmitt-Trigger logic input", 11 DIN (in) "Serial data input. Data are clocked into the 24-bit input shift register on each falling edge of the serial clock input.Schmitt-trigger logic input", 12 IOVDD (power) "Digital input-output power supply", 13 A0 (in) "Address 0-sets device address", 14 A1 (in) "Address 1-sets device address", 15 ~{ENABLE} (in) "The enable pin (active low) connects the SPI interface to the serial port", 16 LDAC (in) "Load DACs; rising edge triggered, loads all DAC registers"

## DAC7564ICPWR
designator U?
12-Bit, Quad Channel, Ultra-Low Glitch, Voltage Output DAC with 2.5 V, 2 ppm/degC Internal Reference, -40 to 105 degC, 16-pin SOP (PW16), Green (RoHS & no Sb/Br); Manufacturer: Texas Instruments; PartNumber: DAC7564ICPWR; DAC Channels: 4; DNL(Max)(+/-LSB): 0.5; Interface: Serial SPI; Power Consumption(Typ)(mW): 2.9; Resolution(Bits): 12; Settling Time(us): 8; SFDR(dB): 79; SNR(dB): 81; SubFamily: Precision DAC (=<10MSPS); DatasheetVersion: SBAS413B; PackageVersion: 4040064-4/G, 02/2011; PackageReference: PW16; PackageDescription: 16-Pin Plastic Small Outline, Body 5 x 4.4 mm, Pitch 0.65 mm; Supplier 1: Digi-Key; Supplier Part Number 1: DAC7564ICPWR-ND; Supplier 2: Mouser; Supplier Part Number 2: 595-DAC7564ICPWR; Eco-Plan: Green (RoHS & no Sb/Br); Mounting Technology: Surface Mount; Code_JEDEC: MO-153; ComponentLink1Description: Manufacturer URL; ComponentLink1URL: http://www.ti.com/; ComponentLink2Description: Datasheet; ComponentLink2URL: http://www.ti.com/general/docs/lit/getliterature.tsp?genericPartNumber=DAC7564&fileType=pdf; ComponentLink3Description: Package Specification; ComponentLink3URL: http://www.ti.com/lit/ml/mpds361/mpds361.pdf
footprint TI-PW16_N (SOP, 16-Leads, Body 5x4.4mm, Pitch 0.65mm, IPC Medium Density)
footprint TI-PW16_L (SOP, 16-Leads, Body 5x4.4mm, Pitch 0.65mm, IPC High Density)
footprint TI-PW16_M (SOP, 16-Leads, Body 5x4.4mm, Pitch 0.65mm, IPC Low Density)
pins: 1 VOUTA (hiz) "Analog output voltage from DAC-A", 2 VOUTB (hiz) "Analog output voltage from DAC-B", 3 VREFH/VREFOUT (io) "Positive reference input / reference output 2.5V if internal reference used.", 4 AVDD (power) "Power-supply input, 2.7V to 5.5V", 5 VREFL (in) "Negative reference input", 6 GND (power) "Ground reference point for all circuitry on the part", 7 VOUTC (hiz) "Analog output voltage from DAC-C", 8 VOUTD (hiz) "Analog output voltage from DAC-D", 9 ~{SYNC} (in) "Level-triggered control input (active-low). This input is the frame synchronization signal for the input data. When S\Y\N\C\ goes low, it enables the input shift register, and data are sampled on subsequent falling clock (See Datasheet)", 10 SCLK (in) "Serial clock input. Data can be transferred at rates up to 50MHz. Schmitt-Trigger logic input", 11 DIN (in) "Serial data input. Data are clocked into the 24-bit input shift register on each falling edge of the serial clock input.Schmitt-trigger logic input", 12 IOVDD (power) "Digital input-output power supply", 13 A0 (in) "Address 0-sets device address", 14 A1 (in) "Address 1-sets device address", 15 ~{ENABLE} (in) "The enable pin (active low) connects the SPI interface to the serial port", 16 LDAC (in) "Load DACs; rising edge triggered, loads all DAC registers"

## DAC7564ICPWRG4
designator U?
12-Bit, Quad Channel, Ultra-Low Glitch, Voltage Output DAC with 2.5 V, 2 ppm/degC Internal Reference, -40 to 105 degC, 16-pin SOP (PW16), Green (RoHS & no Sb/Br); Manufacturer: Texas Instruments; PartNumber: DAC7564ICPWRG4; DAC Channels: 4; DNL(Max)(+/-LSB): 0.5; Interface: Serial SPI; Power Consumption(Typ)(mW): 2.9; Resolution(Bits): 12; Settling Time(us): 8; SFDR(dB): 79; SNR(dB): 81; SubFamily: Precision DAC (=<10MSPS); DatasheetVersion: SBAS413B; PackageVersion: 4040064-4/G, 02/2011; PackageReference: PW16; PackageDescription: 16-Pin Plastic Small Outline, Body 5 x 4.4 mm, Pitch 0.65 mm; Supplier 1: Digi-Key; Supplier Part Number 1: DAC7564ICPWRG4-ND; Supplier 2: Mouser; Supplier Part Number 2: 595-DAC7564ICPWRG4; Eco-Plan: Green (RoHS & no Sb/Br); Mounting Technology: Surface Mount; Code_JEDEC: MO-153; ComponentLink1Description: Manufacturer URL; ComponentLink1URL: http://www.ti.com/; ComponentLink2Description: Datasheet; ComponentLink2URL: http://www.ti.com/general/docs/lit/getliterature.tsp?genericPartNumber=DAC7564&fileType=pdf; ComponentLink3Description: Package Specification; ComponentLink3URL: http://www.ti.com/lit/ml/mpds361/mpds361.pdf
footprint TI-PW16_N (SOP, 16-Leads, Body 5x4.4mm, Pitch 0.65mm, IPC Medium Density)
footprint TI-PW16_L (SOP, 16-Leads, Body 5x4.4mm, Pitch 0.65mm, IPC High Density)
footprint TI-PW16_M (SOP, 16-Leads, Body 5x4.4mm, Pitch 0.65mm, IPC Low Density)
pins: 1 VOUTA (hiz) "Analog output voltage from DAC-A", 2 VOUTB (hiz) "Analog output voltage from DAC-B", 3 VREFH/VREFOUT (io) "Positive reference input / reference output 2.5V if internal reference used.", 4 AVDD (power) "Power-supply input, 2.7V to 5.5V", 5 VREFL (in) "Negative reference input", 6 GND (power) "Ground reference point for all circuitry on the part", 7 VOUTC (hiz) "Analog output voltage from DAC-C", 8 VOUTD (hiz) "Analog output voltage from DAC-D", 9 ~{SYNC} (in) "Level-triggered control input (active-low). This input is the frame synchronization signal for the input data. When S\Y\N\C\ goes low, it enables the input shift register, and data are sampled on subsequent falling clock (See Datasheet)", 10 SCLK (in) "Serial clock input. Data can be transferred at rates up to 50MHz. Schmitt-Trigger logic input", 11 DIN (in) "Serial data input. Data are clocked into the 24-bit input shift register on each falling edge of the serial clock input.Schmitt-trigger logic input", 12 IOVDD (power) "Digital input-output power supply", 13 A0 (in) "Address 0-sets device address", 14 A1 (in) "Address 1-sets device address", 15 ~{ENABLE} (in) "The enable pin (active low) connects the SPI interface to the serial port", 16 LDAC (in) "Load DACs; rising edge triggered, loads all DAC registers"